# EAGLE library part 50224-019 (library con-aces-50224-series)
ACES CONNECTORS 50224 SERIES Aces Connectors 50224 <https://www.acesconn.com/tw/series/50224-xxxxx-xxx/3165>
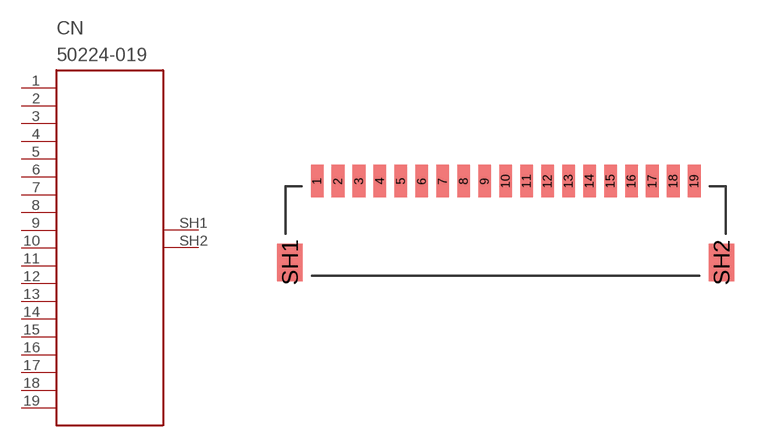
[diagram p15: symbol with the pads of 50224-019; footprint 50224-019]

Designator prefix CN

## 50224-019  [50224-019]
1  1
2  2
3  3
4  4
5  5
6  6
7  7
8  8
9  9
10  10
11  11
12  12
13  13
14  14
15  15
16  16
17  17
18  18
19  19
SH1  SH1
SH2  SH2

## Footprint 50224-019 (pad centres in mm)
smd 0.6 x 1.55: 1 -9,0; 2 -8,0; 3 -7,0; 4 -6,0; 5 -5,0; 6 -4,0; 7 -3,0; 8 -2,0; 9 -1,0; 10 0,0; 11 1,0; 12 2,0; 13 3,0; 14 4,0; 15 5,0; 16 6,0; 17 7,0; 18 8,0; 19 9,0
smd 1.2 x 1.8: SH1 -10.3,-3.875; SH2 10.3,-3.875